# Altium schematic symbol library UCSD Protolab.SchLib: 137 symbols (part 1 of 2)
Pins are listed as number, name and electrical type; pins without a type are passive.

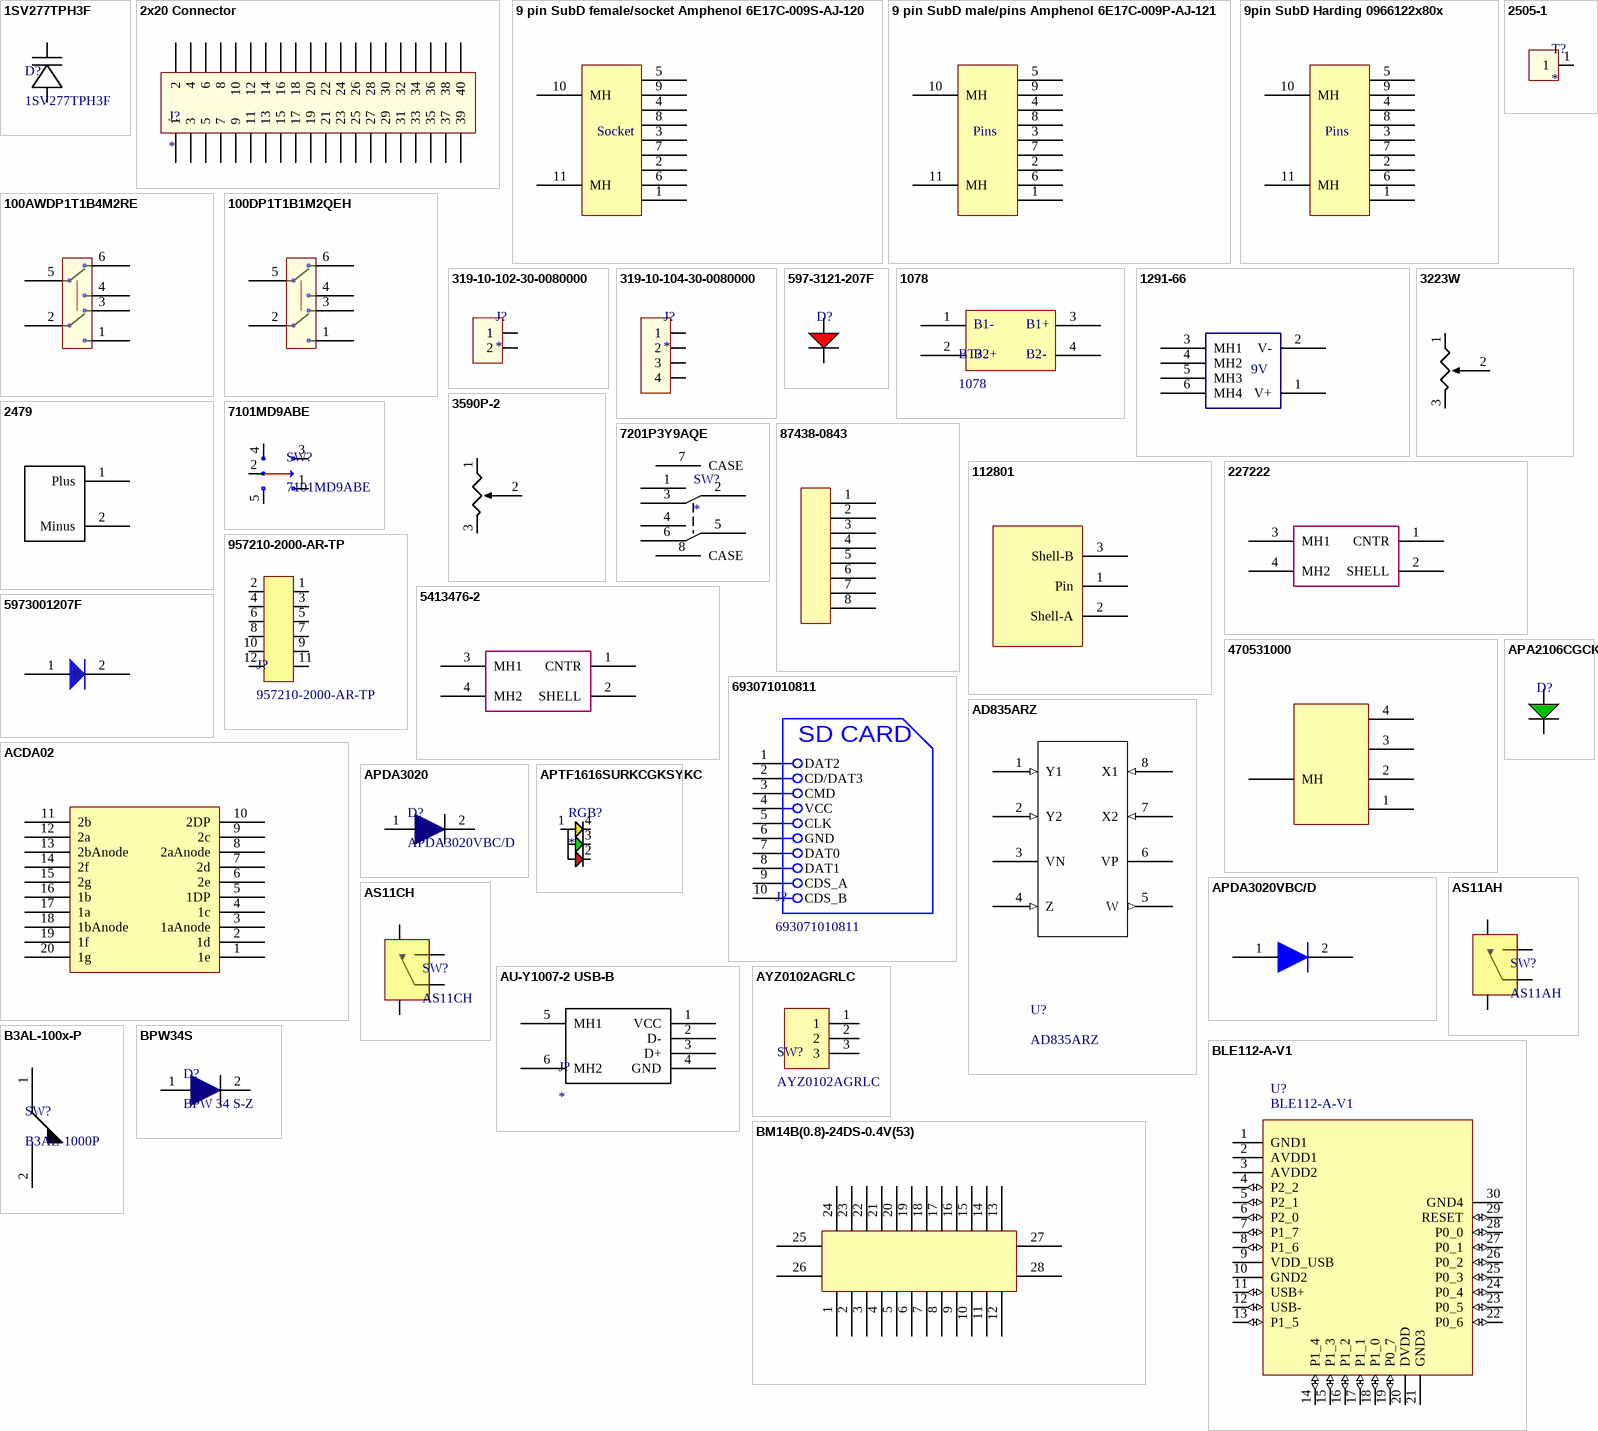
[diagram p0: symbols 1SV277TPH3F to BPW34S]

## 1SV277TPH3F
designator D?
DIODE VARICAP VCO UHF USC; Manufacturer: Toshiba Semiconductor and Storage; Capacitance @ Vr, F: 2.35pF @ 4V, 1MHz; Capacitance Ratio: 2.3; Capacitance Ratio Condition: C1/C4; Voltage - Peak Reverse (Max): 10V; Diode Type: Single; Supplier 1: Digi-Key; RoHS: RoHS Compliant; Stock 1: 5486; Pricing 1: 1=0.54, 10=0.42, 25=0.3544, 100=0.2888, 250=0.2392, 500=0.1976, 1000=0.148 (USD); Packaging: Digi-Reel®; Q @ Vr, F: -; Mounting Type: Surface Mount; Package / Case: SC-76, SOD-323; Supplier Device Package: USC; ComponentLink1URL: http://toshiba.semicon-storage.com/info/docget.jsp?did=2789&prodName=1SV277; ComponentLink1Description: http://toshiba.semicon-storage.com/info/docget.jsp?did=2789&prodName=1SV277; Supplier Part Number 1: 1SV277TPH3FDKR-ND; Manufacturer Part Number: 1SV277TPH3F; Category: Discrete Semiconductor Products
footprint 1SV277TPH3F (DIODE VARICAP VCO UHF USC)
pins: 1 "Test Point Hole 10mil", 2 "Test Point Hole 10mil"

## 2x20 Connector
designator J?
40 pin 100mil centers
footprint 2x20 Connector (40 pin 100mil centers)
pins: 1, 2, 3, 4, 5, 6, 7, 8, 9, 10, 11, 12, 13, 14, 15, 16, 17, 18, 19, 20, 21, 22, 23, 24, 25, 26, 27, 28, 29, 30, 31, 32, 33, 34, 35, 36, 37, 38, 39, 40

## 9 pin SubD female/socket Amphenol 6E17C-009S-AJ-120
designator J?, comment 9 pin SubD demale/socket Amphenol 6E17C-009S-AJ-120
9 pin SubD female/socket Amphenol 6E17C-009S-AJ-120
footprint 9 pin SubD female/socket Amphenol (9 pin SubD female/socket Amphenol 6E17C-009S-AJ-120)
pins: 1, 2, 3, 4, 5, 6, 7, 8, 9, 10 MH, 11 MH
text: Socket

## 9 pin SubD male/pins Amphenol 6E17C-009P-AJ-121
designator J?
footprint 9 pin SubD male/pins Amphenol (9 pin SubD male/pins Amphenol 6E17C-009P-AJ-121)
pins: 1, 2, 3, 4, 5, 6, 7, 8, 9, 10 MH, 11 MH
text: Pins

## 9pin SubD Harding 0966122x80x
designator J?
9 pin SubD male/pins HARDING 0966122x80x
footprint 9 Pin SubD Male/pin (9 pin SubD male/pins HARDING 0966122x80x)
pins: 1, 2, 3, 4, 5, 6, 7, 8, 9, 10 MH, 11 MH
text: Pins

## 100AWDP1T1B4M2RE
designator SW?
E-Switch DPDT
footprint 100AWDP1T1B4M2RE (E-Switch DPDT)
pins: 1, 2, 3, 4, 5, 6

## 100DP1T1B1M2QEH
designator SW?
E-Switch DPDT
footprint 100DP1T1B1M2QEH (E-Switch DPDT)
pins: 1, 2, 3, 4, 5, 6

## 319-10-102-30-0080000
designator J?
Mill Max 319 Series 2 pad
footprint 319-10-102-30-0080000 (Mill Max 319 Series 2 pad)
pins: 1, 2

## 319-10-104-30-0080000
designator J?
Mill Max 319 Series 4 pad
footprint 319-10-104-30-0080000 (Mill Max 319 Series 4 pad)
pins: 1, 2, 3, 4

## 597-3121-207F
designator D?  (value not drawn)
Diallight 597-3121-207F 645nm RED PLCC-2
footprint VLMR334BACB (Vishay VLMR334BACB RED PLCC-2)
pins: 1 C, 2 C

## 1078
designator BT?
AAA DUAL HLDER W/COIL SPRING SMT; Manufacturer: Keystone Electronics; Battery Type, Function: Cylindrical, Holder; Style: Holder (Open); Number of Cells: 2; Supplier 1: Digi-Key; RoHS: RoHS Compliant; Stock 1: 523; Pricing 1: 1=4.48, 10=3.878, 50=3.3936, 100=3.232, 250=2.828, 500=2.7472, 1000=2.3432, 2500=2.1816, 5000=2.1008 (USD); Battery Cell Size: AAA; Battery Series: -; Mounting Type: PCB, Surface Mount; Termination Style: SMD (SMT) Tab; Height Above Board: 0.440" (11.18mm); Operating Temperature: -50°C ~ 145°C; ComponentLink1URL: http://www.keyelco.com/product-pdf.cfm?p=14049; ComponentLink1Description: http://www.keyelco.com/product-pdf.cfm?p=14049; Supplier Part Number 1: 36-1078-ND; Manufacturer Part Number: 1078; Category: Battery Products
footprint 1078 (AAA DUAL HLDER W/COIL SPRING SMT)
pins: 1 "Test Point Hole 10mil", 2 "Test Point Hole 10mil", 3 "Test Point Hole 10mil", 4 "Test Point Hole 10mil"
text: B1-; B1+; B2+; B2-

## 1291-66
designator B?
Keystone 9V Batt
footprint 1291-66 (Keystone 9V Battery Holder)
pins: 1 V+, 2 V-, 3 MH1, 4 MH2, 5 MH3, 6 MH4
text: 9V

## 2479
designator B?
Cylindrical Battery Contacts, Clips, Holders & Springs 3AAA HOLDER PC MNT; Battery Cell Size: AAA; Brand: Keystone Electronics; Number of Batteries: 3 Battery; Supplier 1: Mouser; RoHS: RoHS Compliant; Stock 1: 500; Pricing 1: 1=3.47, 100=3.12, 500=2.08, 1000=1.32, 2000=1.18, 5000=1.11, 10000=1.08 (AUD); Material: Steel; Packaging: Bulk; Product: Battery Holders; Type: Plastic Battery Holder; Mounting Style: PCB; Product Category: Battery Holders, Contacts and Clips; Standard Pack Qty: 100; RoHS - Mouser: Y; Minimum Order Quantity: 1; Reeling: False; ComponentLink1URL: http://www.mouser.com/ds/2/215/479-741518.pdf; ComponentLink1Description: http://www.mouser.com/ds/2/215/479-741518.pdf; Supplier Part Number 1: 534-2479; Manufacturer: Keystone Electronics; Manufacturer Part Number: 2479; Category: Cylindrical Battery Contacts, Clips, Holders & Springs
footprint 2479 (Cylindrical Battery Contacts, Clips, Holders & Springs 3AAA HOLDER PC MNT)
pins: 1 Plus (power), 2 Minus (power)

## 2505-1
designator T?
footprint 2505-1 (Mill-Max Turret)
pins: 1

## 3223W
designator R?
Bourns 3223W Pot
footprint 3223W (Bourns 3223W Pot)
pins: 1, 2, 3

## 3590P-2
designator R?
POT 20K OHM 2W WIREWOUND LINEAR  Bourns 3590P-2 Pot
footprint 3590P-2 (POT 20K OHM 2W WIREWOUND LINEAR)
pins: 1, 2, 3

## 7101MD9ABE
designator SW?
SWITCH TOGGLE SPDT 0.4VA 20V; Manufacturer: C&K Components; Switch Function: On-On; Current Rating: 0.4VA (AC/DC); Actuator Type: Standard Round; Actuator Length: 6.86mm; Illumination: Non-Illuminated; Bushing Thread: Unthreaded; Actuator Material: Brass, Chrome Plated; Electrical Life: 100,000 Cycles; Supplier 1: Digi-Key; RoHS: RoHS Compliant; Stock 1: 528; Pricing 1: 1=4.8, 10=4.57, 50=4.3416, 100=4.2273, 250=3.88452, 500=3.4275, 1000=3.08475, 5000=3.02763 (USD); Packaging: Bulk; Circuit: SPDT; Voltage Rating - AC: 20V; Voltage Rating - DC: 20V; Illumination Type, Color: -; Illumination Voltage (Nominal): -; Mounting Type: Through Hole, Right Angle; Panel Cutout Dimensions: -; Termination Style: PC Pin; Ingress Protection: -; Features: Epoxy Sealed Terminals; Operating Temperature: -30°C ~ 85°C; ComponentLink1URL: http://www.ck-components.com/index.php?module=media&action=Display&cmpref=14430&lang=en&width=&height=&format=&alt=; ComponentLink1Description: http://www.ck-components.com/index.php?module=media&action=Display&cmpref=14430&lang=en&width=&height=&format=&alt=; Supplier Part Number 1: CKN1045-ND; Manufacturer Part Number: 7101MD9ABE; Category: Switches
footprint 7101MD9ABE (SWITCH TOGGLE SPDT 0.4VA 20V)
pins: 1 "Test Point Hole 10mil", 2 "Test Point Hole 10mil", 3 "Test Point Hole 10mil", 4 "Test Point Hole 10mil", 5 "Test Point Hole 10mil"

## 7201P3Y9AQE
designator SW?
DPDT Right Angle Switch 5A; Manufacturer: C&K; Manufacturer Part Number: 7201P3Y9AQE; Switch Function: On-On; Current Rating: 5A (AC/DC); Actuator Type: Flat Anti-Rotation; Actuator Length: 11.43mm; Illumination: Non-Illuminated; Bushing Thread: Unthreaded; Actuator Material: Brass, Chrome Plated; Electrical Life: 100,000 Cycles; Supplier 1: Digi-Key; Packaging: Bulk; Part Status: Active; Circuit: DPDT; Illumination Type, Color: -; Illumination Voltage (Nominal): -; Mounting Type: Through Hole, Right Angle; Termination Style: PC Pin; Panel Cutout Dimensions: -; Ingress Protection: -; Features: Epoxy Sealed Terminals; Operating Temperature: -30°C ~ 85°C; ComponentLink1URL: http://www.ckswitches.com/media/1394/7000toggle.pdf; ComponentLink1Description: http://www.ckswitches.com/media/1394/7000toggle.pdf; Supplier Part Number 1: CKN9733-ND
footprint 7201P3Y9AQE
pins: 1, 2, 3, 4, 5, 6, 7 CASE, 8 CASE

## 87438-0843
designator J?
Molex CONN HEADER 8POS 1.5MM R/A SMD
footprint 87438-0843 (Molex CONN HEADER 8POS 1.5MM R/A SMD)
pins: 1, 2, 3, 4, 5, 6, 7, 8

## 112801
designator BNC?
CONN BNC JACK 75 OHM EDGE MNT; Manufacturer: Amphenol-RF Division; Connector Type: Jack, Female Socket; Contact Termination: Solder; Impedance: 75 Ohm; Frequency - Max: 3GHz; Body Material: Brass; Body Finish: Gold; Center Contact Material: Beryllium Copper; Dielectric Material: Polytetrafluoroethylene (PTFE); Voltage Rating: 500V; Supplier 1: Digi-Key; RoHS: RoHS Compliant; Stock 1: 47; Pricing 1: 1=10.35, 10=9.9, 50=8.55, 100=8.325, 250=7.425, 500=6.975, 1000=6.165, 2500=5.85 (USD); Packaging: Bulk; Connector Style: BNC; Shield Termination: Solder; Mounting Type: Board Edge, End Launch; Cable Group: -; Fastening Type: Bayonet Lock; Features: -; Housing Color: Gold; Ingress Protection: -; Center Contact Plating: Gold; Operating Temperature: -65°C ~ 165°C; ComponentLink1URL: http://www.amphenolconnex.com/downloads/dl/file/id/3467/112801_customer_drawing.pdf; ComponentLink1Description: http://www.amphenolconnex.com/downloads/dl/file/id/3467/112801_customer_drawing.pdf; Supplier Part Number 1: ACX2267-ND; Manufacturer Part Number: 112801; Category: Connectors, Interconnects
footprint 112801 (CONN BNC JACK 75 OHM EDGE MNT)
pins: 1 Pin, 2 Shell-A, 3 Shell-B

## 227222
designator J?
TE Conn Insulated BNC
footprint 227222 (TE Conn Insul BNC)
pins: 1 CNTR, 2 SHELL, 3 MH1, 4 MH2

## 957210-2000-AR-TP
designator J?
10 PIN 2mm header; Manufacturer: 3M; Connector Type: Header, Shrouded; Number of Positions: 10; Number of Positions Loaded: All; Pitch: 0.079" (2.00mm); Supplier 1: Digi-Key; Manufacturer Part Number: 957210-2000-AR-TP; RoHS: RoHS Compliant; Category: Connectors, Interconnects; Stock 1: 10; Pricing 1: 1=2.63, 10=2.52, 25=2.31, 50=2.205, 100=2.1, 250=1.83752, 500=1.785, 1000=1.5225, 2500=1.4175 (USD); Packaging: Tube; Contact Type: Male Pin; Number of Rows: 2; Row Spacing: 0.079" (2.00mm); Contact Mating Length: -; Mounting Type: Surface Mount; Termination: Solder; Fastening Type: -; Features: -; Contact Finish: Gold; Contact Finish Thickness: Flash; Color: Black; ComponentLink1URL: http://multimedia.3m.com/mws/mediawebserver?66666UuZjcFSLXTtmXMEmxMVEVuQEcuZgVs6EVs6E666666--; ComponentLink1Description: http://multimedia.3m.com/mws/mediawebserver?66666UuZjcFSLXTtmXMEmxMVEVuQEcuZgVs6EVs6E666666--; Supplier Part Number 1: 3M6488-ND
footprint 957210-2000-AR-TP (10 pin 2mm header)
pins: 1, 2, 3, 4, 5, 6, 7, 8, 9, 10, 11, 12

## 5413476-2
designator J?
5413476-2 CONN BNC JACK STR 50 OHM PCB
footprint 5413476-2 (5413476-2 CONN BNC JACK STR 50 OHM PCB)
pins: 1 CNTR, 2 SHELL, 3 MH1, 4 MH2

## 470531000
designator J?
MOLEX 0470531000 4 IN CONNECTOR
footprint 0470531000 (MOLEX 0470531000 4 IN CONNECTOR)
pins: 1, 2, 3, 4, 5 MH

## 5973001207F
designator D?
LED RED 630NM 2SMD 2PLCC; Manufacturer: Dialight; Lens Color: Colorless; Lens Transparency: Clear; Millicandela Rating: 10mcd; Lens Style/Size: Round with Flat Top, 2.39mm; Voltage - Forward (Vf) (Typ): 2V; Current - Test: 10mA; Viewing Angle: 120°; Supplier 1: Digi-Key; Manufacturer Part Number: 5973001207F; RoHS: RoHS Compliant; Category: Optoelectronics; Stock 1: 7326; Pricing 1: 1=1, 25=0.64, 100=0.5499, 250=0.47996, 500=0.41996, 1000=0.32997 (USD); Packaging: Cut Tape (CT); Color: Red; Mounting Type: Surface Mount; Wavelength - Dominant: -; Wavelength - Peak: 630nm; Features: -; Package / Case: 2-SMD, J-Lead; Supplier Device Package: 2-PLCC; Size / Dimension: 3.40mm L x 2.70mm W; Height (Max): 1.90mm; ComponentLink1URL: http://www.dialight.com/Assets/Brochures_And_Catalogs/Indication/597-3x01-2xx.pdf; ComponentLink1Description: http://www.dialight.com/Assets/Brochures_And_Catalogs/Indication/597-3x01-2xx.pdf; Supplier Part Number 1: 350-1577-1-ND
footprint PLCC2
pins: 1 A, 2 C

## 693071010811
designator J?
Wurth CONN MICRO SD CARD PUSH-PUSH R/A
footprint 693071010811 (Wurth CONN MICRO SD CARD PUSH-PUSH R/A)
pins: 1     DAT2, 2     CD/DAT3, 3     CMD, 4     VCC, 5     CLK, 6     GND, 7     DAT0, 8     DAT1, 9     CDS_A, 10     CDS_B
text: SD CARD

## ACDA02
designator DS?, comment ACDA02-41SURKWA-F01
DISPLAY 650NM RED 2DIG 0.2" SMD; Manufacturer: Kingbright; Number of Characters: 2; Digit/Alpha Size: 0.20" (5.08mm); Display Type: 7-Segment; Common Pin: Common Anode; Voltage - Forward (Vf) (Typ): 1.95V; Current - Test: 20mA; Millicandela Rating: 30mcd; Power Dissipation (Max): 75mW; Supplier 1: Digi-Key; RoHS: RoHS Compliant; Stock 1: 1965; Pricing 1: 1=3.7, 10=3.08, 25=2.576, 100=2.24 (USD); Size / Dimension: 0.315" H x 0.555" W x 0.118" D (8.00mm x 14.10mm x 3.00mm); Color: Red; Wavelength - Peak: 650nm; Package / Case: 20-SMD, No Lead; ComponentLink1URL: http://www.kingbrightusa.com/images/catalog/SPEC/ACDA02-41SURKWA-F01.pdf; ComponentLink1Description: http://www.kingbrightusa.com/images/catalog/SPEC/ACDA02-41SURKWA-F01.pdf; Supplier Part Number 1: 754-1628-1-ND; Manufacturer Part Number: ACDA02-41SURKWA-F01; Category: Optoelectronics
footprint ACDA02 (DISPLAY 650NM RED 2DIG 0.2" SMD)
pins: 1 1e, 2 1d, 3 1aAnode, 4 1c, 5 1DP, 6 2e, 7 2d, 8 2aAnode, 9 2c, 10 2DP, 11 2b, 12 2a, 13 2bAnode, 14 2f, 15 2g, 16 1b, 17 1a, 18 1bAnode, 19 1f, 20 1g

## AD835ARZ
designator U?
IC MULTIPLIER 4-QUADRANT 8-SOIC; Manufacturer: Analog Devices Inc.; Function: Analog Multiplier; Supplier 1: Digi-Key; RoHS: RoHS Compliant; Stock 1: 1133; Pricing 1: 1=20.36, 10=18.506, 25=17.118, 100=15.7301, 250=14.34216, 500=13.41686, 1000=12.30649, 2500=11.84384, 5000=11.688 (USD); Packaging: Tube; Number of Bits/Stages: 4-Quadrant; Package / Case: 8-SOIC (0.154", 3.90mm Width); Supplier Device Package: 8-SOIC; ComponentLink1URL: http://www.analog.com/media/en/technical-documentation/data-sheets/AD835.pdf; ComponentLink1Description: http://www.analog.com/media/en/technical-documentation/data-sheets/AD835.pdf; Supplier Part Number 1: AD835ARZ-ND; Manufacturer Part Number: AD835ARZ; Category: Integrated Circuits (ICs)
footprint SOIC127P600X175-8N (SOIC, 8-Leads, Body 4.90x3.90mm, Pitch 1.27mm, IPC Medium Density)
pins: 1 Y1 (in), 2 Y2 (in), 3 VN (power), 4 Z (in), 5 W (out), 6 VP (power), 7 X2 (in), 8 X1 (in)

## APA2106CGCK
designator D?  (value not drawn)
LED GREEN CLEAR 2SMD R/A Kingbright
footprint APA2106CGCK (LED GREEN CLEAR 2SMD R/A Kingbright)
pins: 1 C, 2 A

## APDA3020
designator D?, comment APDA3020VBC/D
LED BLUE CLEAR 2SMD R/A; Manufacturer: Kingbright; Wavelength - Dominant: 470nm; Wavelength - Peak: 465nm; Millicandela Rating: 800mcd; Voltage - Forward (Vf) (Typ): 3.3V; Current - Test: 20mA; Viewing Angle: 10°; Lens Color: Colorless; Lens Style/Size: Round with Domed Top, 1.90mm; Supplier 1: Digi-Key; RoHS: RoHS Compliant; Stock 1: 5216; Pricing 1: 1=0.69, 10=0.529, 25=0.4312, 100=0.343, 250=0.294, 500=0.2548, 1000=0.196 (USD); Packaging: Cut Tape (CT); Color: Blue; Lens Transparency: Clear; Package / Case: 2-SMD, No Lead; Supplier Device Package: SMD; Size / Dimension: 3.00mm L x 2.80mm W; Height (Max): 2.00mm; Mounting Type: Surface Mount, Right Angle; ComponentLink1URL: http://www.kingbrightusa.com/images/catalog/SPEC/APDA3020VBC-D.pdf; ComponentLink1Description: http://www.kingbrightusa.com/images/catalog/SPEC/APDA3020VBC-D.pdf; Supplier Part Number 1: 754-1784-1-ND; Manufacturer Part Number: APDA3020VBC/D; Category: Optoelectronics
footprint APDA3020 (LED BLUE CLEAR 2SMD R/A)
pins: 1, 2

## APDA3020VBC/D
designator D?
LED BLUE CLEAR 2SMD R/A; Manufacturer: Kingbright; Wavelength - Dominant: 470nm; Wavelength - Peak: 465nm; Millicandela Rating: 800mcd; Voltage - Forward (Vf) (Typ): 3.3V; Current - Test: 20mA; Viewing Angle: 10°; Lens Color: Colorless; Lens Style/Size: Round with Domed Top, 1.90mm; Supplier 1: Digi-Key; RoHS: RoHS Compliant; Stock 1: 5216; Pricing 1: 1=0.69, 10=0.529, 25=0.4312, 100=0.343, 250=0.294, 500=0.2548, 1000=0.196 (USD); Packaging: Digi-Reel®; Color: Blue; Lens Transparency: Clear; Package / Case: 2-SMD, No Lead; Supplier Device Package: SMD; Size / Dimension: 3.00mm L x 2.80mm W; Height (Max): 2.00mm; Mounting Type: Surface Mount, Right Angle; ComponentLink1URL: http://www.kingbrightusa.com/images/catalog/SPEC/APDA3020VBC-D.pdf; ComponentLink1Description: http://www.kingbrightusa.com/images/catalog/SPEC/APDA3020VBC-D.pdf; Supplier Part Number 1: 754-1784-6-ND; Manufacturer Part Number: APDA3020VBC/D; Category: Optoelectronics
footprint APDA3020VBC/D (LED BLUE CLEAR 2SMD R/A)
pins: 1, 2

## APTF1616SURKCGKSYKC
designator RGB?
LED GRN/RED/YLW 1616SMD
footprint APTF1616SURKCGKSYKC (LED GRN/RED/YLW 1616SMD)
pins: 1, 2, 3, 4

## AS11AH
designator SW?
AS11AH NKK SPST Switch 2.5mm Act; Manufacturer: NKK Switches; Contact Timing: Non-Shorting (BBM); Switch Function: On-Off; Current Rating: 0.4VA (AC/DC); Voltage Rating - AC: 28V; Actuator Type: Standard; Actuator Length: 2.50mm; Actuator Material: Polyamide (PA), Nylon, Glass Filled; Mechanical Life: 50,000 Cycles; Operating Force: 260gf; Supplier 1: Digi-Key; Manufacturer Part Number: AS11AH; RoHS: RoHS Compliant; Category: Switches; Stock 1: 98; Pricing 1: 1=4.08, 10=3.91, 50=3.315, 100=3.23, 250=3.18752, 500=2.635, 1000=2.465, 5000=2.295 (USD); Packaging: Tray; Circuit: SPST; Voltage Rating - DC: 28V; Contact Material: Phosphor Bronze; Contact Finish: Gold; Mounting Type: Through Hole, Right Angle; Termination Style: PC Pin; Features: Epoxy Sealed Terminals; Switch Travel: 2.50mm; Operating Temperature: -30°C ~ 85°C; Electrical Life: 50,000 Cycles; ComponentLink1URL: http://www.nkkswitches.com/pdf/aslides.pdf; ComponentLink1Description: http://www.nkkswitches.com/pdf/aslides.pdf; Supplier Part Number 1: 360-2977-ND
footprint AS11AH (AS11AH NKK SPST Switch 2.5mm Act)
pins: 1, 2, 3, 4

## AS11CH
designator SW?
AS11CH NKK SPST Switch 3.8mm Act; Manufacturer: NKK Switches; Contact Timing: Non-Shorting (BBM); Switch Function: On-Off; Current Rating: 0.4VA (AC/DC); Voltage Rating - AC: 28V; Actuator Type: Standard; Actuator Length: 3.80mm; Actuator Material: Polyamide (PA), Nylon, Glass Filled; Switch Travel: 2.50mm; Mechanical Life: 50,000 Cycles; Operating Force: 260gf; Supplier 1: Digi-Key; Manufacturer Part Number: AS11CH; RoHS: RoHS Compliant; Category: Switches; Stock 1: 546; Pricing 1: 1=4.08, 10=3.91, 50=3.315, 100=3.23, 250=3.18752, 500=2.635, 1000=2.465, 5000=2.295 (USD); Packaging: Tray; Circuit: SPST; Voltage Rating - DC: 28V; Contact Material: Phosphor Bronze; Contact Finish: Gold; Mounting Type: Through Hole, Right Angle; Termination Style: PC Pin; Features: Epoxy Sealed Terminals; Operating Temperature: -30°C ~ 85°C; Electrical Life: 50,000 Cycles; ComponentLink1URL: http://www.nkkswitches.com/pdf/aslides.pdf; ComponentLink1Description: http://www.nkkswitches.com/pdf/aslides.pdf; Supplier Part Number 1: 360-2728-ND
footprint AS11CH (AS11CH NKK SPST Switch 3.8mm Act)
pins: 1, 2, 3, 4

## AU-Y1007-2 USB-B
designator J?
USB - B USB 2.0 Receptacle Connector 4 Position Through Hole, Right Angle, Horizontal
footprint AU-Y1007-2
pins: 1 VCC, 2 D-, 3 D+, 4 GND, 5 MH1, 6 MH2

## AYZ0102AGRLC
designator SW?
SWITCH SLIDE SPDT 100MA 12V; Manufacturer: C&K Components; Contact Timing: Not Specified; Switch Function: On-On; Current Rating: 100mA (DC); Actuator Type: Standard; Actuator Length: 1.00mm; Actuator Material: Polyamide (PA46), Nylon 4/6, Glass Filled; Mechanical Life: 10,000 Cycles; Supplier 1: Digi-Key; RoHS: RoHS Compliant; Stock 1: 10416; Pricing 1: 1=0.91, 10=0.874, 25=0.8556, 50=0.7646, 100=0.7282, 250=0.71, 500=0.60076, 1000=0.58256 (USD); Packaging: Digi-Reel®; Circuit: SPDT; Voltage Rating - AC: -; Voltage Rating - DC: 12V; Contact Material: Copper Alloy; Contact Finish: Silver; Mounting Type: Surface Mount, Right Angle; Termination Style: Gull Wing; Features: -; Switch Travel: -; Operating Temperature: -10°C ~ 60°C; Electrical Life: -; Operating Force: -; ComponentLink1URL: http://www.ck-components.com/index.php?module=media&action=Display&cmpref=14395&lang=en&width=&height=&format=&alt=; ComponentLink1Description: http://www.ck-components.com/index.php?module=media&action=Display&cmpref=14395&lang=en&width=&height=&format=&alt=; Supplier Part Number 1: 401-2012-6-ND; Manufacturer Part Number: AYZ0102AGRLC; Category: Switches
footprint AYZ0102AGRLC (SWITCH SLIDE SPDT 100MA 12V)
pins: 1, 2, 3

## B3AL-100x-P
designator SW?, comment B3AL-1000P
SWITCH TACTILE SPST-NO 0.05A 16V; Manufacturer: Omron Electronics Inc-EMC Div; Switch Function: Off-Mom; Contact Rating @ Voltage: 0.05A @ 16VDC; Actuator Type: Square Button; Actuator Height off PCB, from Pins: 5.00mm; Actuator Orientation: Top Actuated; Outline: 6.90mm x 6.00mm; Illumination: Non-Illuminated; Operating Force: 200gf; Switch Travel: 1.30mm; Mechanical Life: 1,000,000 Cycles; Supplier 1: Digi-Key; RoHS: RoHS Compliant; Stock 1: 3409; Pricing 1: 1=2.05, 10=1.973, 25=1.8152, 50=1.5782, 100=1.4994, 250=1.45992, 500=1.42046 (USD); Packaging: Cut Tape (CT); Circuit: SPST-NO; Mounting Type: Surface Mount; Termination Style: SMD (SMT) Tab; Illumination Voltage (Nominal): -; Illumination Type, Color: -; Ingress Protection: -; Features: -; Actuator Material: -; Operating Temperature: -40°C ~ 90°C; ComponentLink1URL: http://www.components.omron.com/components/web/pdflib.nsf/0/1D2B51AC80E7C976862578780051AEEC/$file/B3AL_0114.pdf; ComponentLink1Description: http://www.components.omron.com/components/web/pdflib.nsf/0/1D2B51AC80E7C976862578780051AEEC/$file/B3AL_0114.pdf; Supplier Part Number 1: SW1216CT-ND; Manufacturer Part Number: B3AL-1000P; Category: Switches
footprint B3AL-100x-P
pins: 1, 2

## BLE112-A-V1
designator U?
CLASS 2 BLTOOTH 4.0 MODULE; Manufacturer: Silicon Labs; RF Family/Standard: Bluetooth; Protocol: Bluetooth v4.0 Low Energy; Frequency: 2.4GHz; Data Rate: 2Mbps; Power - Output: 3dBm; Sensitivity: -85dBm; Serial Interfaces: SPI, UART; Antenna Type: Integrated, Chip; Memory Size: 256kB Flash, 8kB SRAM; Voltage - Supply: 2 V ~ 3.6 V; Current - Receiving: 25mA; Current - Transmitting: 36mA; Supplier 1: Digi-Key; RoHS: RoHS Compliant; Stock 1: 8978; Pricing 1: 1=15.66, 25=14.2956, 100=12.9341 (USD); Packaging: Cut Tape (CT); Modulation: -; Mounting Type: Surface Mount; Operating Temperature: -40°C ~ 85°C; Package / Case: Module; ComponentLink1URL: http://media.digikey.com/pdf/Data%20Sheets/BlueGiga%20PDFs/BLE112.pdf; ComponentLink1Description: http://media.digikey.com/pdf/Data%20Sheets/BlueGiga%20PDFs/BLE112.pdf; Supplier Part Number 1: 1446-1017-1-ND; Manufacturer Part Number: BLE112-A-V1; Category: RF/IF and RFID
footprint BLE112-A-V1 (CLASS 2 BLTOOTH 4.0 MODULE)
pins: 1 GND1 (power), 2 AVDD1 (power), 3 AVDD2 (power), 4 P2_2 (io), 5 P2_1 (io), 6 P2_0 (io), 7 P1_7 (io), 8 P1_6 (io), 9 VDD_USB (power), 10 GND2 (power), 11 USB+ (io), 12 USB- (io), 13 P1_5 (io), 14 P1_4 (io), 15 P1_3 (io), 16 P1_2 (io), 17 P1_1 (io), 18 P1_0 (io), 19 P0_7 (io), 20 DVDD (power), 21 GND3 (power), 22 P0_6 (io), 23 P0_5 (io), 24 P0_4 (io), 25 P0_3 (io), 26 P0_2 (io), 27 P0_1 (io), 28 P0_0 (io), 29 RESET (io), 30 GND4 (power)

## BM14B(0.8)-24DS-0.4V(53)
designator J?
Board to Board & Mezzanine Connectors 24P DR RCP B2B/B2FPC 0.8mm H 0.4mm P VSMT; Number of Positions: 24 Position; Brand: Hirose Connector; Product Status: New at Mouser; Supplier 1: Mouser; RoHS: RoHS Compliant; Stock 1: 655; Pricing 1: 1=2.34, 10=1.86, 100=1.78, 250=1.62, 500=1.46, 1000=1.30, 2000=1.07, 5000=1.03, 10000=0.957 (AUD); Packaging: Reel; Series: BM14E; Termination Style: SMD; Pitch: 0.4 mm; Product Type: Receptacles; Stack Height: 0.8 mm; Standard Pack Qty: 1000; RoHS - Mouser: Y; Minimum Order Quantity: 1; Reeling: True; ComponentLink1URL: http://www.mouser.com/ds/2/185/Hirose_BM14 Series-341514.pdf; ComponentLink1Description: http://www.mouser.com/ds/2/185/Hirose_BM14 Series-341514.pdf; Supplier Part Number 1: 798-BM14B0824DS04V53; Manufacturer: Hirose Connector; Manufacturer Part Number: BM14B(0.8)-24DS-0.4V(53); Category: Board to Board & Mezzanine Connectors
footprint BM14B(0.8)-24DS-0.4V(53) (Board to Board & Mezzanine Connectors 24P DR RCP B2B/B2FPC 0.8mm H 0.4mm P VSMT)
pins: 1, 2, 3, 4, 5, 6, 7, 8, 9, 10, 11, 12, 13, 14, 15, 16, 17, 18, 19, 20, 21, 22, 23, 24, 25, 26, 27, 28

## BPW34S
designator D?, comment BPW 34 S-Z
PHOTODIODE SMT; Manufacturer: OSRAM Opto Semiconductors Inc.; Wavelength: 850nm; Spectral Range: 400nm ~ 1100nm; Diode Type: PIN; Response Time: 20ns; Voltage - DC Reverse (Vr) (Max): 32V; Current - Dark (Typ): 2nA; Active Area: 7mm²; Viewing Angle: 120°; Supplier 1: Digi-Key; RoHS: RoHS Compliant; Stock 1: 30934; Pricing 1: 1=0.99, 10=0.791, 25=0.6044, 100=0.5494, 250=0.48344, 500=0.40652 (USD); Packaging: Cut Tape (CT); Color - Enhanced: -; Responsivity @ nm: -; Operating Temperature: -40°C ~ 100°C; Mounting Type: Surface Mount; Package / Case: 2-SMD, Z-Bend; ComponentLink1URL: http://media.digikey.com/pdf/Data%20Sheets/Osram%20PDFs/bpw34_spdf.pdf; ComponentLink1Description: http://media.digikey.com/pdf/Data%20Sheets/Osram%20PDFs/bpw34_spdf.pdf; Supplier Part Number 1: 475-2659-1-ND; Manufacturer Part Number: BPW 34 S-Z; Category: Sensors, Transducers
footprint BPW34S
pins: 1, 2

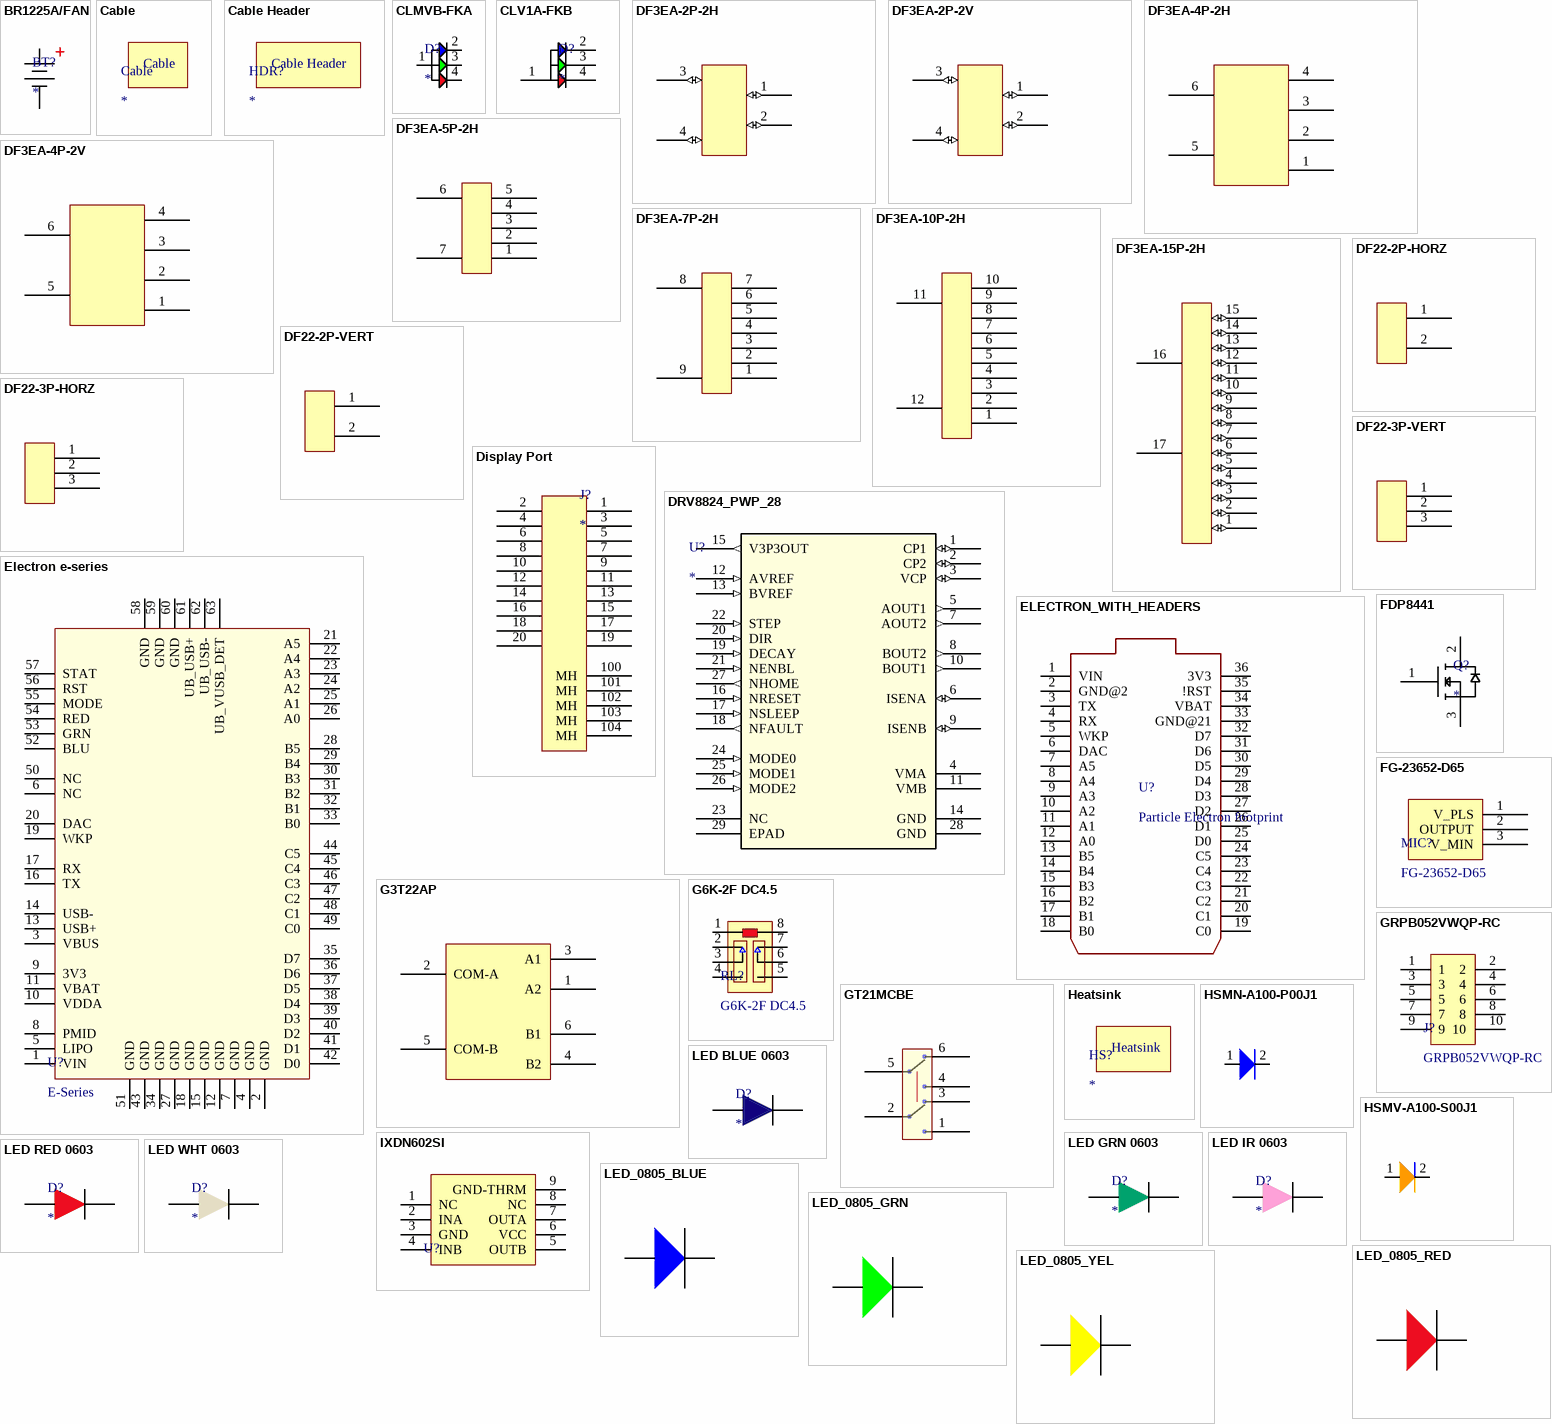
[diagram p1: symbols BR1225A/FAN to LED_0805_YEL]

## BR1225A/FAN
designator BT?
BATTERY LITHIUM 3V COIN 12.5MM
footprint BR1225A/FAN (BATTERY LITHIUM 3V COIN 12.5MM)
pins: 1, 2
text: +

## Cable
designator Cable  (mechanical)
Cable; Manuf Part Number: *

## Cable Header
designator HDR?  (mechanical)
Cable Header; Manuf Part Number: *

## CLMVB-FKA
designator D?
RGB LED CREE CLMVB-FKA
footprint CLMVB-FKA (PLCC4 RGB LED CREE)
pins: 1, 2, 3, 4

## CLV1A-FKB
designator D?
RGB LED CREE CLV1A-FKB
footprint CLV1A-FKB (RGB LED CREE CLV1A-FKB)
pins: 1, 2, 3, 4

## DF3EA-2P-2H
designator J?
CONN HEADER 2POS 2MM Horz
footprint DF3EA-2P-2H (CONN HEADER 2POS 2MM Horz)
pins: 1 (io), 2 (io), 3 (io), 4 (io)

## DF3EA-2P-2V
designator J?
CONN HEADER 2POS 2MM VERT
footprint DF3EA-2P-2V (CONN HEADER 2POS 2MM VERT)
pins: 1 (io), 2 (io), 3 (io), 4 (io)

## DF3EA-4P-2H
designator J?
CONN RECEPT HOUSING 4POS 2MM HORZ HIROSE
footprint DF3DZ-4P-2H
pins: 1, 2, 3, 4, 5, 6

## DF3EA-4P-2V
designator J?
CONN RECEPT HOUSING 4POS 2MM VERT HIROSE
footprint DF3DZ-4P-2V
pins: 1, 2, 3, 4, 5, 6

## DF3EA-5P-2H
designator J?
CONN HEADER 5POS 2MM R/A TIN
footprint DF3DZ-5P-2H (HIROSE 5P RA)
pins: 1, 2, 3, 4, 5, 6, 7

## DF3EA-7P-2H
designator J?
DF3EA-7P-2H
footprint DF3DZ-7P-2H
pins: 1, 2, 3, 4, 5, 6, 7, 8, 9

## DF3EA-10P-2H
designator J?
CONN HEADER 10POS 2MM R/A TIN
footprint DF3DZ-10P-2H (HIROSE 10P RA)
pins: 1, 2, 3, 4, 5, 6, 7, 8, 9, 10, 11, 12

## DF3EA-15P-2H
designator J?
CONN HEADER 15POS 2MM R/A GOLD
footprint DF3DZ-15P-2V (CONN HEADER 15POS 2MM R/A GOLD)
pins: 1 (io), 2 (io), 3 (io), 4 (io), 5 (io), 6 (io), 7 (io), 8 (io), 9 (io), 10 (io), 11 (io), 12 (io), 13 (io), 14 (io), 15 (io), 16, 17

## DF22-2P-HORZ
designator J?
Hirose DF22 Horz - Black and Red
footprint DF22-2P-HORZ-BLACK (Hirose DF22 2 Contacts Horz BLACK)
footprint DF22-2P-HORZ-RED (Hirose DF22 2 Contacts Horz RED)
pins: 1, 2

## DF22-2P-VERT
designator J?
Hirose DF22 VERT - Black and Red
footprint DF22-2P-VERT-BLACK (Hirose DF22 2 Contacts Vert BLACK)
footprint DF22-2P-VERT-RED (Hirose DF22 2 Contacts Vert RED)
pins: 1, 2

## DF22-3P-HORZ
designator J?
Hirose DF22 Horz - Black and Red
footprint DF22-3P-HORZ-BLACK (Hirose DF22 3 Contacts Horz BLACK)
footprint DF22-3P-HORZ- RED (Hirose DF22 3 Contacts Horz RED)
pins: 1, 2, 3

## DF22-3P-VERT
designator J?, comment DF22-3P- VERT
Hirose DF22 Vert- Black and Red
footprint DF22-3P-VERT-BLACK (Hirose DF22 3 Contacts Vert BLACK)
footprint DF22-3P-VERT-RED (Hirose DF22 3 Contacts Vert RED)
pins: 1, 2, 3

## Display Port
designator J?
Display Port
footprint Display Port
pins: 1, 2, 3, 4, 5, 6, 7, 8, 9, 10, 11, 12, 13, 14, 15, 16, 17, 18, 19, 20, 100 MH, 101 MH, 102 MH, 103 MH, 104 MH

## DRV8824_PWP_28
designator U?
Texas Instruments Stepper Motor Driver; GENERIC_PART_NUMBER: DRV8824; Manufacturer_Part_Number: drv8824_pwp_28; INDUSTRY_STD_PKG_TYPE: HTSSOP; FAMILY_NAME: STEPPER DRIVER; PIN_COUNT: 28; PACKAGE_DESIGNATOR: PWP; Manufacturer: Texas Instruments; Datasheet URL: http://www.ti.com/lit/gpn/DRV8824; Vendor: Texas Instruments; RefDes: RefDes; Type: DEV; Value: Value
footprint PWP28_3P04X2P34 (Medium Footprint)
footprint PWP28_3P04X2P34- (Large Footprint)
footprint PWP28_3P04X2P300 (Small Footprint)
pins: 1 CP1 (io), 2 CP2 (io), 3 VCP (io), 4 VMA (power), 5 AOUT1 (out), 6 ISENA (io), 7 AOUT2 (out), 8 BOUT2 (out), 9 ISENB (io), 10 BOUT1 (out), 11 VMB (power), 12 AVREF (in), 13 BVREF (in), 14 GND (power), 15 V3P3OUT (out), 16 NRESET (in), 17 NSLEEP (in), 18 NFAULT (out), 19 DECAY (in), 20 DIR (in), 21 NENBL (in), 22 STEP (in), 23 NC, 24 MODE0 (in), 25 MODE1 (in), 26 MODE2 (in), 27 NHOME (out), 28 GND (power), 29 EPAD

## Electron e-series
designator U?, comment E-Series
Cut out version for mount e-series flush
footprint Electron e-series (Cut out version for mount e-series flush)
pins: 1 VIN, 2 GND, 3 VBUS, 4 GND, 5 LIPO, 6 NC, 7 GND, 8 PMID, 9 3V3, 10 VDDA, 11 VBAT, 12 GND, 13 USB+, 14 USB-, 15 GND, 16 TX, 17 RX, 18 GND, 19 WKP, 20 DAC, 21 A5, 22 A4, 23 A3, 24 A2, 25 A1, 26 A0, 27 GND, 28 B5, 29 B4, 30 B3, 31 B2, 32 B1, 33 B0, 34 GND, 35 D7, 36 D6, 37 D5, 38 D4, 39 D3, 40 D2, 41 D1, 42 D0, 43 GND, 44 C5, 45 C4, 46 C3, 47 C2, 48 C1, 49 C0, 50 NC, 51 GND, 52 BLU, 53 GRN, 54 RED, 55 MODE, 56 RST, 57 STAT, 58 GND, 59 GND, 60 GND, 61 UB_USB+, 62 UB_USB-, 63 UB_VUSB_DET

## ELECTRON_WITH_HEADERS
designator U?, comment Particle Electron footprint
Electron - Particle Company
footprint ELECTRON (Electron - Particle Company)
pins: 1 VIN (power), 2 GND@2 (power), 3 TX, 4 RX, 5 WKP, 6 DAC, 7 A5, 8 A4, 9 A3, 10 A2, 11 A1, 12 A0, 13 B5, 14 B4, 15 B3, 16 B2, 17 B1, 18 B0, 19 C0, 20 C1, 21 C2, 22 C3, 23 C4, 24 C5, 25 D0, 26 D1, 27 D2, 28 D3, 29 D4, 30 D5, 31 D6, 32 D7, 33 GND@21 (power), 34 VBAT (power), 35 !RST, 36 3V3 (power)

## FDP8441
designator Q?
NCH MOSFET with Ohmite Heatsink E series EA-T220-64E
footprint FDP8441 (NCH MOSFET with Ohmite Heatsink E series EA-T220-64E)
pins: 1, 2, 3

## FG-23652-D65
designator MIC?
Knowles Microphone Electret
footprint FG-23652-D65 (Knowles Microphone Electret)
pins: 1 V_PLS, 2 OUTPUT, 3 V_MIN

## G3T22AP
designator SW?
SWITCH TOGGLE DPDT 0.4VA 28V; Manufacturer: NKK Switches; Switch Function: On-On; Current Rating: 0.4VA (AC/DC); Actuator Type: Standard Round; Actuator Length: 3.81mm; Illumination: Non-Illuminated; Bushing Thread: Unthreaded; Actuator Material: Polyphenylene Sulfide (PPS); Electrical Life: 50,000 Cycles; Supplier 1: Digi-Key; RoHS: RoHS Compliant; Stock 1: 589; Pricing 1: 1=5.6, 10=5.32, 50=5.04, 100=4.9, 250=4.62, 500=3.92, 1000=3.71, 5000=3.64 (USD); Packaging: Tray; Circuit: DPDT; Voltage Rating - AC: 28V; Voltage Rating - DC: 28V; Illumination Type, Color: -; Illumination Voltage (Nominal): -; Mounting Type: Surface Mount; Panel Cutout Dimensions: -; Termination Style: Gull Wing; Ingress Protection: -; Features: Process Sealed; Operating Temperature: -30°C ~ 85°C; ComponentLink1URL: http://www.nkkswitches.com/pdf/G3toggles.pdf; ComponentLink1Description: http://www.nkkswitches.com/pdf/G3toggles.pdf; Supplier Part Number 1: 360-1779-ND; Manufacturer Part Number: G3T22AP; Category: Switches
footprint G3T22AP (SWITCH TOGGLE DPDT 0.4VA 28V)
pins: 1 A2, 2 COM-A, 3 A1, 4 B2, 5 COM-B, 6 B1

## G6K-2F DC4.5
designator RL?
RELAY TELECOM DPDT 1A 4.5V; Manufacturer: Omron Electronics Inc-EMC Div; Coil Type: Non Latching; Coil Current: 23.2mA; Coil Voltage: 4.5VDC; Contact Form: DPDT (2 Form C); Switching Voltage: 125VAC, 60VDC - Max; Turn On Voltage (Max): 3.6 VDC; Turn Off Voltage (Min): 0.45 VDC; Operate Time: 3ms; Coil Power: 100 mW; Coil Resistance: 194 Ohms; Supplier 1: Digi-Key; Manufacturer Part Number: G6K-2F DC4.5; RoHS: RoHS Compliant; Category: Relays; Stock 1: 10475; Pricing 1: 1=4.29, 10=4.021, 25=3.574, 50=3.3954, 100=3.2166, 250=2.8592, 500=2.6805, 1000=2.5018, 2500=2.45712 (USD); Packaging: Tube; Relay Type: Telecom; Contact Rating (Current): 1A; Release Time: 3ms; Features: -; Mounting Type: Surface Mount; Termination Style: Gull Wing; Contact Material: Silver (Ag), Gold (Au); Operating Temperature: -40°C ~ 70°C; ComponentLink1URL: http://www.omron.com/ecb/products/pdf/en-g6k.pdf; ComponentLink1Description: http://www.omron.com/ecb/products/pdf/en-g6k.pdf; Supplier Part Number 1: Z111-ND
pins: 1, 2, 3, 4, 5, 6, 7, 8

## GRPB052VWQP-RC
designator J?
CONN HEADER .050" 10PS DL SMD AU; Manufacturer: Sullins Connector Solutions; Connector Type: Header, Unshrouded; Number of Positions: 10; Number of Positions Loaded: All; Pitch: 0.050" (1.27mm); Supplier 1: Digi-Key; Manufacturer Part Number: GRPB052VWQP-RC; RoHS: RoHS Compliant; Category: Connectors, Interconnects; Stock 1: 16500; Pricing 1: 1=1.3, 10=1.083, 25=1.0024, 50=0.9022, 100=0.802, 250=0.70176, 500=0.6416, 1000=0.58145, 2500=0.5213 (USD); Packaging: Bulk; Contact Type: Male Pin; Number of Rows: 2; Row Spacing: 0.050" (1.27mm); Contact Mating Length: 0.118" (3.00mm); Mounting Type: Surface Mount; Termination: Solder; Fastening Type: -; Features: Board Guide; Contact Finish: Gold; Contact Finish Thickness: Flash; Color: -; ComponentLink1URL: http://www.sullinscorp.com/catalogs/85_PAGE90-91_.050_MALE_HDR_ST_RA_SMT.pdf; ComponentLink1Description: http://www.sullinscorp.com/catalogs/85_PAGE90-91_.050_MALE_HDR_ST_RA_SMT.pdf; Supplier Part Number 1: S9013E-05-ND
footprint GRPB052VWQP-RC (CONN HEADER .050" 10PS DL SMD AU)
pins: 1, 2, 3, 4, 5, 6, 7, 8, 9, 10

## GT21MCBE
designator SW?
C&K DPDT
footprint GT21MCBE (C&K DPDT)
pins: 1, 2, 3, 4, 5, 6

## Heatsink
designator HS?  (mechanical)
Heatsink - included in BOM but not Electrical Check; Manuf Part Number: *

## HSMN-A100-P00J1
designator D?
EMITTER Blue 470nm PLCC-2
footprint HSMN-A100-P00J1 (Blue LED 470nm PLCC2)
pins: 1 A, 2 C

## HSMV-A100-S00J1
designator D?
EMITTER ORG 594nm PLCC-2
footprint HSMV-A100-S00J1 (ORG LED 594nm PLCC2)
pins: 1 A, 2 C

## IXDN602SI
designator U?  (value not drawn)
MOSFET N-CH 2A DUAL LO SIDE 8-SO
footprint IXDN602SI (MOSFET N-CH 2A DUAL LO SIDE 8-SO)
pins: 1 NC, 2 INA, 3 GND, 4 INB, 5 OUTB, 6 VCC, 7 OUTA, 8 NC, 9 GND-THRM

## LED BLUE 0603
designator D?
LED BLUE 0603
footprint LED 0603 BLUE
pins: 1 "Cathode", 2 "Anode"

## LED GRN 0603
designator D?
LED GRN 0603
footprint LED 0603 GRN
pins: 1 "Cathode", 2 "Anode"

## LED IR 0603
designator D?
LED IR 0603
footprint LED 0603 IR
pins: 1 "Cathode", 2 "Anode"

## LED RED 0603
designator D?
LED RED 0603
footprint LED 0603 RED
pins: 1 "Cathode", 2 "Anode"

## LED WHT 0603
designator D?
LED WHT 0603
footprint LED 0603 WHT
pins: 1 "Cathode", 2 "Anode"

## LED_0805_BLUE
designator D?
footprint LED_0805_BLUE
pins: 1 C, 2 A

## LED_0805_GRN
designator D?
footprint LED_0805_GRN
pins: 1 C, 2 A

## LED_0805_RED
designator D?  (value not drawn)
footprint LED_0805_RED
pins: 1 C, 2 A

## LED_0805_YEL
designator D?
footprint LED_0805_YEL
pins: 1 C, 2 A

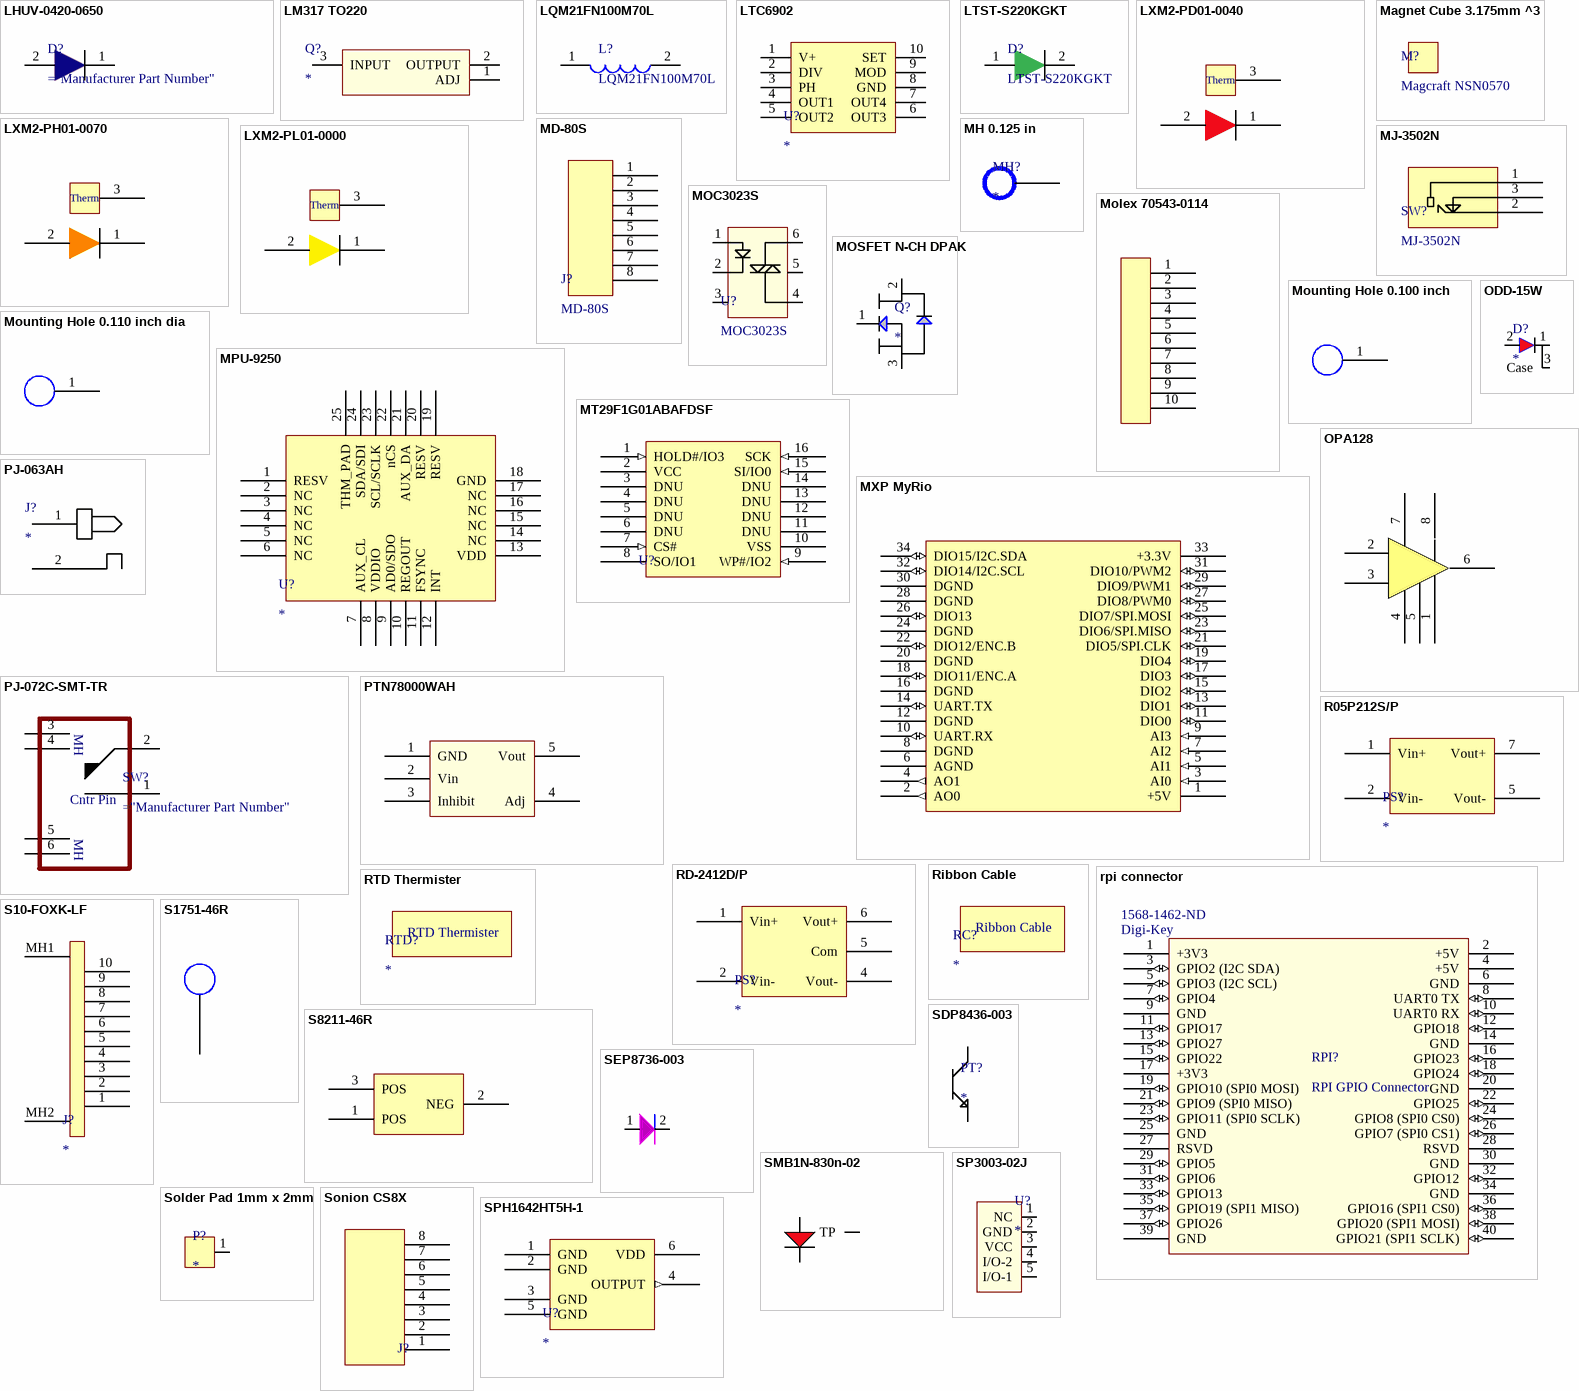
[diagram p2: symbols LHUV-0420-0650 to SPH1642HT5H-1]

## LHUV-0420-0650
designator D?
LHUV-0420-0650 - EMITTER VISIBL 425NM 1A WFDFN
footprint LHUV-0420-0650 (LHUV-0420-0650 - EMITTER VISIBL 425NM 1A WFDFN)
pins: 1, 2

## LM317 TO220
designator Q?
LM317 TO220 with Ohmite Heatsink E series EA-T220-64E
footprint LM317 TO220 (LM317 TO220 with Ohmite Heatsink E series EA-T220-64E)
pins: 1 ADJ, 2 OUTPUT, 3 INPUT

## LQM21FN100M70L
designator L?
FIXED IND 10UH 100MA 600 MOHM; Manufacturer: Murata Electronics North America; Type: Multilayer; Material - Core: Ferrite; Inductance: 10µH; Tolerance: ±20%; Shielding: Shielded; DC Resistance (DCR): 780 mOhm Max; Frequency - Self Resonant: 15MHz; Frequency - Test: 1MHz; Supplier 1: Digi-Key; Manufacturer Part Number: LQM21FN100M70L; RoHS: RoHS Compliant; Category: Inductors, Coils, Chokes; Stock 1: 70065; Pricing 1: 1=0.17, 10=0.151, 25=0.1356, 50=0.1174, 100=0.1054, 250=0.09784, 500=0.0903, 750=0.08579, 1000=0.07826 (USD); Packaging: Digi-Reel®; Current Rating: 100mA; Current - Saturation: 100mA; Q @ Freq: -; Ratings: -; Operating Temperature: -55°C ~ 125°C; Mounting Type: Surface Mount; Package / Case: 0805 (2012 Metric); Size / Dimension: 0.079" L x 0.049" W (2.00mm x 1.25mm); Height - Seated (Max): 0.057" (1.45mm); ComponentLink1URL: http://search.murata.co.jp/Ceramy/image/img/PDF/ENG/L0075S0097LQM21F_70.pdf; ComponentLink1Description: http://search.murata.co.jp/Ceramy/image/img/PDF/ENG/L0075S0097LQM21F_70.pdf; Supplier Part Number 1: 490-4029-6-ND
footprint LQM21 (Chip Inductor, 2-Leads, Body 2.00x0.90mm, IPC Medium Density)
pins: 1, 2

## LTC6902
designator U?
IC OSC SILICON PROG 10MSOP
footprint ltc6902 (IC OSC SILICON PROG 10MSOP)
pins: 1 V+, 2 DIV, 3 PH, 4 OUT1, 5 OUT2, 6 OUT3, 7 OUT4, 8 GND, 9 MOD, 10 SET

## LTST-S220KGKT
designator D?
LED GREEN CLEAR 0805 R/A SMD; Manufacturer: Lite-On Inc.; Wavelength - Dominant: 568nm; Wavelength - Peak: 574nm; Millicandela Rating: 35mcd; Voltage - Forward (Vf) (Typ): 2V; Current - Test: 20mA; Viewing Angle: 130°; Lens Color: Colorless; Lens Style/Size: Rectangle with Domed Top, 1.70mm x 0.60mm; Supplier 1: Digi-Key; RoHS: RoHS Compliant; Stock 1: 112862; Pricing 1: 1=0.26, 10=0.201, 100=0.1096, 250=0.07308, 500=0.06212, 1000=0.0475 (USD); Packaging: Cut Tape (CT); Color: Green; Lens Transparency: Clear; Package / Case: 0805 (2012 Metric); Supplier Device Package: Chip LED; Size / Dimension: 2.10mm L x 1.00mm W; Height (Max): 0.60mm; Mounting Type: Surface Mount, Right Angle; ComponentLink1URL: http://optoelectronics.liteon.com/upload/download/DS22-2000-075/S_110_LTST-S220KGKT.pdf; ComponentLink1Description: http://optoelectronics.liteon.com/upload/download/DS22-2000-075/S_110_LTST-S220KGKT.pdf; Supplier Part Number 1: 160-1468-1-ND; Manufacturer Part Number: LTST-S220KGKT; Category: Optoelectronics
footprint LTSTS220KGKT (Green LED)
pins: 1, 2

## LXM2-PD01-0040
designator DS?
LED LUXEON REBEL RED SMD; Manufacturer: Lumileds; Wavelength: 627nm; Flux @ 25°C, Current - Test: 48 lm; Current - Test: 350mA; Voltage - Forward (Vf) (Typ): 2.1V; Current - Max: 700mA; Viewing Angle: 125°; Lumens/Watt @ Current - Test: 56 lm/W; Flux @ 85°C, Current - Test: 34 lm; Thermal Resistance of Package: 8°C/W; Supplier 1: Digi-Key; RoHS: RoHS Compliant; Stock 1: 0; Pricing 1: 1000=1.53136, 2000=1.46804, 5000=1.42774, 10000=1.38168 (USD); Packaging: Tape & Reel (TR); Color: Red; Mounting Type: Surface Mount; Package / Case: 3-SMD, No Lead; ComponentLink1URL: http://www.lumileds.com/uploads/265/DS68-pdf; ComponentLink1Description: http://www.lumileds.com/uploads/265/DS68-pdf; Supplier Part Number 1: 1416-1023-2-ND; Manufacturer Part Number: LXM2-PD01-0040; Category: Optoelectronics
footprint LED - REBEL - ALUM - 20MM LENS (Rebel LED Body 4.6 x 3.25 mm, inc. leads (LxW max))
footprint LED - REBEL - ALUM - NOLENS (Rebel LED Body 4.6 x 3.25 mm, inc. leads (LxW max))
footprint LED - REBEL - FR4 - 20MM LENS (Rebel LED Body 4.6 x 4.25 mm, inc. leads (LxW max))
footprint LED - REBEL - FR4 - NOLENS (Rebel LED Body 4.6 x 4.25 mm, inc. leads (LxW max))
pins: 1, 2, 3
text: Therm

## LXM2-PH01-0070
designator DS?
LED LUXEON REBEL ORANGE SMD; Manufacturer: Lumileds; Wavelength: 617nm; Flux @ 25°C, Current - Test: 72 lm; Current - Test: 350mA; Voltage - Forward (Vf) (Typ): 2.1V; Current - Max: 700mA; Viewing Angle: 125°; Lumens/Watt @ Current - Test: 83 lm/W; Flux @ 85°C, Current - Test: 40 lm; Thermal Resistance of Package: 8°C/W; Supplier 1: Digi-Key; RoHS: RoHS Compliant; Stock 1: 8181; Pricing 1: 1=4.2, 10=3.5, 25=2.9268, 100=2.5452, 250=2.22704, 500=2.03616 (USD); Packaging: Cut Tape (CT); Color: Orange; Mounting Type: Surface Mount; Package / Case: 3-SMD, No Lead; ComponentLink1URL: http://www.lumileds.com/uploads/265/DS68-pdf; ComponentLink1Description: http://www.lumileds.com/uploads/265/DS68-pdf; Supplier Part Number 1: 1416-1026-1-ND; Manufacturer Part Number: LXM2-PH01-0070; Category: Optoelectronics
footprint LED - REBEL - ALUM - 20MM LENS (Rebel LED Body 4.6 x 3.25 mm, inc. leads (LxW max))
footprint LED - REBEL - ALUM - NOLENS (Rebel LED Body 4.6 x 3.25 mm, inc. leads (LxW max))
footprint LED - REBEL - FR4 - 20MM LENS (Rebel LED Body 4.6 x 4.25 mm, inc. leads (LxW max))
footprint LED - REBEL - FR4 - NOLENS (Rebel LED Body 4.6 x 4.25 mm, inc. leads (LxW max))
pins: 1, 2, 3
text: Therm

## LXM2-PL01-0000
designator DS?
LED LUXEON REBEL PC AMBER SMD; Manufacturer: Lumileds; Wavelength: 591nm; Flux @ 25°C, Current - Test: 70 lm ~ 110 lm (Typ); Current - Test: 350mA; Voltage - Forward (Vf) (Typ): 3.05V; Current - Max: 700mA; Viewing Angle: 120°; Lumens/Watt @ Current - Test: 63 lm/W ~ 83 lm/W (Typ); Flux @ 85°C, Current - Test: 25 lm ~ 39 lm (Typ); Thermal Resistance of Package: 12°C/W; Supplier 1: Digi-Key; RoHS: RoHS Compliant; Stock 1: 7577; Pricing 1: 1=5.2, 10=4.333, 25=3.624, 100=3.1512, 250=2.75732, 500=2.52096 (USD); Packaging: Cut Tape (CT); Color: Amber; Mounting Type: Surface Mount; Package / Case: 3-SMD, No Lead; ComponentLink1URL: http://www.lumileds.com/uploads/265/DS68-pdf; ComponentLink1Description: http://www.lumileds.com/uploads/265/DS68-pdf; Supplier Part Number 1: 1416-1027-1-ND; Manufacturer Part Number: LXM2-PL01-0000; Category: Optoelectronics
footprint LED - REBEL - ALUM - 20MM LENS (Rebel LED Body 4.6 x 3.25 mm, inc. leads (LxW max))
footprint LED - REBEL - ALUM - NOLENS (Rebel LED Body 4.6 x 3.25 mm, inc. leads (LxW max))
footprint LED - REBEL - FR4 - 20MM LENS (Rebel LED Body 4.6 x 4.25 mm, inc. leads (LxW max))
footprint LED - REBEL - FR4 - NOLENS (Rebel LED Body 4.6 x 4.25 mm, inc. leads (LxW max))
pins: 1, 2, 3
text: Therm

## Magnet Cube 3.175mm ^3
designator M?, comment Magcraft NSN0570
Magnet Cube Footprint 0.125 inch ^3 Magcraft NSN0570
footprint Magnet Cube (0.125 inch ^3 Magcraft NSN0570)

## MD-80S
designator J?
CONN MINIDIN RECPT UNSHIELD 8POS; Manufacturer: CUI Inc.; Connector Type: Receptacle, Female Sockets; Number of Positions: 8; Current Rating: 1A, 2A; Voltage - Rated: 100VAC, 12VDC; Supplier 1: Digi-Key; RoHS: RoHS Compliant; Stock 1: 5184; Pricing 1: 1=1.62, 10=1.257, 100=0.9585, 500=0.7668, 1000=0.6816, 2500=0.56658 (USD); Packaging: Bulk; Shell Size - Insert: Mini DIN; Shell Size, MIL: -; Mounting Type: Through Hole, Right Angle; Termination: Solder; Fastening Type: Push-Pull; Orientation: Keyed; Ingress Protection: -; Shell Material, Finish: Polybutylene Terephthalate (PBT); Contact Finish: Silver; Features: -; Contact Finish Thickness: -; Operating Temperature: -40°C ~ 85°C; ComponentLink1URL: http://www.cui.com/product/resource/digikeypdf/md-xxs.pdf; ComponentLink1Description: http://www.cui.com/product/resource/digikeypdf/md-xxs.pdf; Supplier Part Number 1: CP-2480-ND; Manufacturer Part Number: MD-80S; Category: Connectors, Interconnects
footprint MD-80S (CONN MINIDIN RECPT UNSHIELD 8POS)
pins: 1 "Test Point Hole 10mil", 2 "Test Point Hole 10mil", 3 "Test Point Hole 10mil", 4 "Test Point Hole 10mil", 5 "Test Point Hole 10mil", 6 "Test Point Hole 10mil", 7 "Test Point Hole 10mil", 8 "Test Point Hole 10mil"

## MH 0.125 in
designator MH?
0.125 inch mounting hole
footprint MH 0.125 in (Mounting Hole 0.125 inch)
pins: 1

## MJ-3502N
designator SW?
CONN AUDIO JACK 3.5MM MONO; Manufacturer: CUI Inc.; Connector Type: Phone Jack; Gender: Female; Plug/Mating Plug Diameter: 3.50mm (0.141", 1/8", Mini Plug) - Headphone; Number of Positions/Contacts: 2 Conductors, 3 Contacts; Internal Switch(s): Single Switch; Shielding: Unshielded; Color - Contact: Silver; Voltage - Rated: 12VDC; Current Rating: 1A; Supplier 1: Digi-Key; RoHS: RoHS Compliant; Stock 1: 15124; Pricing 1: 1=1.62, 10=1.26, 100=0.9608, 500=0.7686, 1000=0.6832, 2500=0.56791 (USD); Packaging: Bulk; Signal Lines: Mono; Mounting Type: Through Hole, Right Angle; Termination: Solder Eyelet(s); Features: -; Contact Material: Brass; Contact Material - Plating: Silver; Housing Material: Plastic; Housing Color: Black; Operating Temperature: -20°C ~ 85°C; ComponentLink1URL: http://www.cui.com/product/resource/digikeypdf/mj-3502n.pdf; ComponentLink1Description: http://www.cui.com/product/resource/digikeypdf/mj-3502n.pdf; Supplier Part Number 1: CP-3502N-ND; Manufacturer Part Number: MJ-3502N; Category: Connectors, Interconnects
footprint MJ-3502N (CONN AUDIO JACK 3.5MM MONO)
pins: 1, 2, 3

## MOC3023S
designator U?
OPTOISOLATOR 5KV TRIAC 6SMD; Manufacturer: Lite-On Inc.; Zero Crossing Circuit: No; Number of Channels: 1; Voltage - Isolation: 5000Vrms; Voltage - Off State: 400V; Static dV/dt (Min): 1kV/µs; Current - LED Trigger (Ift) (Max): 5mA; Current - Hold (Ih): 250µA (Typ); Voltage - Forward (Vf) (Typ): 1.15V; Current - DC Forward (If) (Max): 50mA; Approvals: CQC, CSA, TUV, UR, VDE; Supplier 1: Digi-Key; Manufacturer Part Number: MOC3023S; RoHS: RoHS Compliant; Category: Isolators; Stock 1: 10572; Pricing 1: 1=0.62, 10=0.48, 100=0.3444, 250=0.30752, 500=0.26446, 1000=0.20418, 2500=0.1845, 5000=0.1722, 10000=0.16605 (USD); Packaging: Tube; Output Type: Triac; Current - On State (It (RMS)) (Max): -; Turn On Time: -; Operating Temperature: -40°C ~ 100°C; Mounting Type: Surface Mount; Package / Case: 6-SMD, Gull Wing; Supplier Device Package: 6-SMD; ComponentLink1URL: http://optoelectronics.liteon.com/upload/download/DS-70-99-0019/S_110_MOC3020%20thru%20MOC3023%20SERIES.pdf; ComponentLink1Description: http://optoelectronics.liteon.com/upload/download/DS-70-99-0019/S_110_MOC3020%20thru%20MOC3023%20SERIES.pdf; Supplier Part Number 1: 160-1379-5-ND
footprint MOC3023S
pins: 1, 2, 3, 4, 5, 6

## Molex 70543-0114
designator J?
CONN HEADER 10POS .100 VERT 30AU
footprint Molex 70543-0114 (CONN HEADER 10POS .100 VERT 30AU)
pins: 1, 2, 3, 4, 5, 6, 7, 8, 9, 10

## MOSFET N-CH DPAK
designator Q?
MOSFET N-CH DPAK
footprint MOSFET N-CH DPAK
pins: 1, 2, 3

## Mounting Hole 0.100 inch
designator MH?
footprint MH 0.1 inch (Mounting Hole)
pins: 1

## Mounting Hole 0.110 inch dia
designator MH?, comment Mounting Hole 0.110 inch
footprint MH 0.110 inch (Mounting Hole)
pins: 1

## MPU-9250
designator U?
IMU ACCEL/GYRO/MAG I2C/SPI 24QFN
footprint QFN40P300X300X105_HS-25N (QFN, 24-Leads, Body 3.00x3.00mm, Pitch 0.40mm, Thermal Pad 1.54x1.54mm, IPC Medium Density)
pins: 1 RESV, 2 NC, 3 NC, 4 NC, 5 NC, 6 NC, 7 AUX_CL, 8 VDDIO, 9 AD0/SDO, 10 REGOUT, 11 FSYNC, 12 INT, 13 VDD, 14 NC, 15 NC, 16 NC, 17 NC, 18 GND (power), 19 RESV, 20 RESV, 21 AUX_DA, 22 nCS, 23 SCL/SCLK, 24 SDA/SDI, 25 THM_PAD

## MT29F1G01ABAFDSF
designator U?  (value not drawn)
Micron Memory
footprint SOIC127P1030X265-16N (SOIC, 16-Leads, Body 10.30x7.50mm, Pitch 1.27mm, IPC Medium Density)
pins: 1 HOLD#/IO3 (in), 2 VCC (power), 3 DNU, 4 DNU, 5 DNU, 6 DNU, 7 CS# (in), 8 SO/IO1, 9 WP#/IO2 (in), 10 VSS (power), 11 DNU (power), 12 DNU (power), 13 DNU (power), 14 DNU (power), 15 SI/IO0 (in), 16 SCK (in)

## MXP MyRio
designator J?, comment MyRio MXP
CONN HEADER LOPRO STR 34POS GOLD; Manufacturer: TE Connectivity AMP Connectors; Manufacturer Part Number: 5103309-7; Connector Type: Header, Shrouded; Number of Positions: 34; Number of Positions Loaded: All; Pitch: 0.100" (2.54mm); Supplier 1: Digi-Key; RoHS: RoHS Compliant; Category: Connectors, Interconnects; Stock 1: 1955; Pricing 1: 1=3.17, 10=2.78, 100=2.22, 500=2.15, 1000=1.7, 5000=1.65 (USD); Packaging: Tube; Contact Type: Male Pin; Number of Rows: 2; Row Spacing: 0.100" (2.54mm); Contact Mating Length: 0.240" (6.10mm); Mounting Type: Through Hole; Termination: Solder; Fastening Type: -; Features: -; Contact Finish: Gold or Gold-Palladium; Contact Finish Thickness: 30µin (0.76µm); Color: Black; ComponentLink1URL: http://www.te.com/commerce/DocumentDelivery/DDEController?Action=srchrtrv&DocNm=5103309&DocType=Customer+Drawing&DocLang=English; ComponentLink1Description: http://www.te.com/commerce/DocumentDelivery/DDEController?Action=srchrtrv&DocNm=5103309&DocType=Customer+Drawing&DocLang=English; Supplier Part Number 1: A33169-ND
footprint 5103309-7
pins: 1 +5V (power), 2 AO0 (out), 3 AI0 (in), 4 AO1 (out), 5 AI1 (in), 6 AGND (power), 7 AI2 (in), 8 DGND (power), 9 AI3 (in), 10 UART.RX (io), 11 DIO0 (io), 12 DGND (power), 13 DIO1 (io), 14 UART.TX (io), 15 DIO2 (io), 16 DGND (power), 17 DIO3 (io), 18 DIO11/ENC.A (io), 19 DIO4 (io), 20 DGND (power), 21 DIO5/SPI.CLK (io), 22 DIO12/ENC.B (io), 23 DIO6/SPI.MISO (io), 24 DGND (power), 25 DIO7/SPI.MOSI (io), 26 DIO13 (io), 27 DIO8/PWM0 (io), 28 DGND (power), 29 DIO9/PWM1 (io), 30 DGND (power), 31 DIO10/PWM2 (io), 32 DIO14/I2C.SCL (io), 33 +3.3V (power), 34 DIO15/I2C.SDA (io)

## ODD-15W
designator D?
PHOTODIODE 15MM 632NM TO-5  OPTO Diode
footprint ODD 15W (PHOTODIODE 15MM 632NM TO-5 OPTO Diode)
pins: 1 Anode, 2 Cathode, 3 Case

## OPA128
designator U?
footprint OPA128 (Low Leakage Op-Amp)
pins: 1, 2, 3, 4, 5, 6, 7, 8

## PJ-063AH
designator J?
CUI Power Jack
footprint PJ-063AH (CUI Power Jack)
pins: 1, 2

## PJ-072C-SMT-TR
designator SW?
CONN PWR JACK 1.1X3.5MM R/A SMT
footprint PJ-072C-SMT-TR (CONN PWR JACK 1.1X3.5MM R/A SMT)
pins: 1, 2, 3, 4, 5, 6
text: MH; Cntr Pin

## PTN78000WAH
designator PS?
REG SW 2.5-12.6V 1.5A HORZ T/H; Manufacturer: Texas Instruments; Number of Outputs: 1; Voltage - Input (Min): 7V; Voltage - Input (Max): 36V; Voltage - Output 1: 2.5 ~ 12.6 V; Efficiency: 91%; Power (Watts) - Max: 18.9W; Supplier 1: Digi-Key; RoHS: RoHS Compliant; Stock 1: 3495; Pricing 1: 1=14.16, 5=14.052, 10=13.944, 50=13.3006, 100=12.0134, 250=11.79888, 500=11.58436 (USD); Packaging: Tray; Type: Non-Isolated PoL Module; Voltage - Output 2: -; Voltage - Output 3: -; Current - Output (Max): 1.5A; Power (Watts) - Manufacture Series: -; Voltage - Isolation: -; Features: With UVLO; Mounting Type: Through Hole; Package / Case: 5-DIP Module; Size / Dimension: 0.75" L x 0.50" W x 0.34" H (19.1mm x 12.7mm x 8.6mm); Operating Temperature: -40°C ~ 85°C; ComponentLink1URL: http://www.ti.com/lit/ds/symlink/ptn78000h.pdf; ComponentLink1Description: http://www.ti.com/lit/ds/symlink/ptn78000h.pdf; Supplier Part Number 1: 296-20506-ND; Manufacturer Part Number: PTN78000WAH; Category: Power Supplies - Board Mount; Applications: ITE (Commercial)
footprint PTN7800HAH (Power Supply)
pins: 1 GND, 2 Vin, 3 Inhibit, 4 Adj, 5 Vout

## R05P212S/P
designator PS?
CONV DC/DC 2W 05VIN 12VOUT
footprint R05P212S/P (CONV DC/DC 2W 05VIN 12VOUT)
pins: 1 Vin+ (power), 2 Vin- (power), 5 Vout- (power), 7 Vout+ (power)